# EAGLE library part MP2325 (library IC)
Step-Up Converter
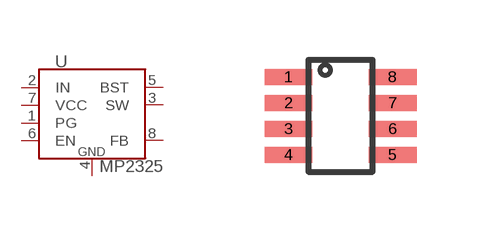
[diagram p23: symbol with the pads of TSOT23-8; footprint TSOT23-8]

Designator prefix U

## MP2325 (MPN: MP2325GJ-P; VMAX: 24V)  [TSOT23-8]
1  PG
2  IN
3  SW
4  GND
5  BST
6  EN
7  VCC
8  FB

## Footprint TSOT23-8 (pad centres in mm)
smd 1.2 x 0.4: 1 -1.3,0.975; 2 -1.3,0.325; 3 -1.3,-0.325; 4 -1.3,-0.975; 5 1.3,-0.975; 6 1.3,-0.325; 7 1.3,0.325; 8 1.3,0.975